# Altium footprint library TO-263-5_L10.2-W8.9-P1.70-BR.PcbLib: 1 footprints
Each footprint in its own frame and in the unit in brackets; x right, y up, seen from the top. Pads: shape width x height; smd on the part's side, far side on the other; paste and mask are expansions set on the pad; w line width, h text height; cw(c..) or ccw(c..) is an arc to the next point about the centre after c.
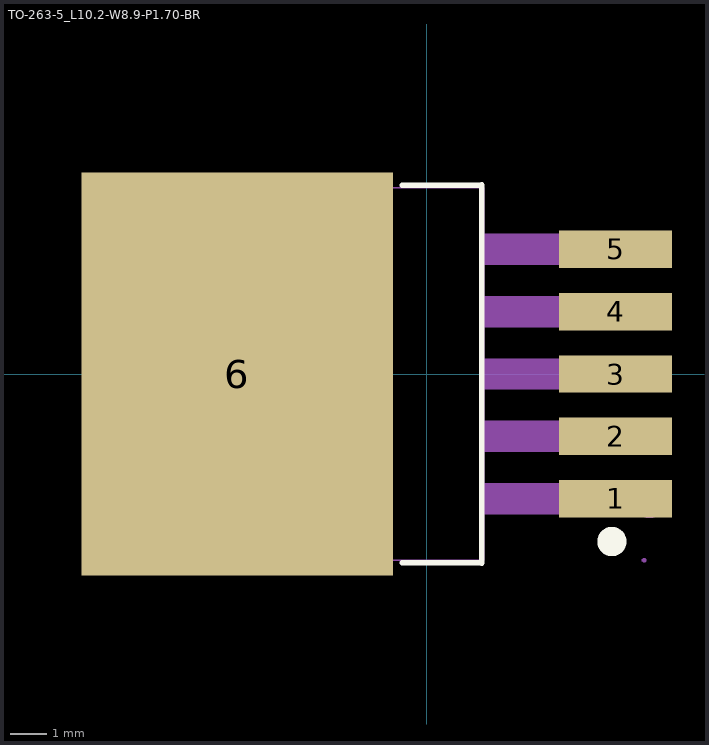
[diagram p0: the footprint, top view; thin cyan lines are the x and y axes]

## TO-263-5_L10.2-W8.9-P1.70-BR [mm]
pads (6):
  rect 3.083x1.02 smd: 1(5.16,-3.4) 2(5.16,-1.7) 3(5.16,0) 4(5.16,1.7) 5(5.16,3.4)
  rect 8.5x11 smd: 6(-5.16,0)
Top Overlay:
  circle w0.4: c5.057,-4.572 r0.2
  lines w0.15: -0.658,-5.156 1.156,-5.156 ; -0.658,5.156 1.131,5.156 ; 1.032,-5.156 1.501,-5.156 ; 1.032,5.156 1.501,5.156
  lines w0.152: 1.501,-5.156 1.501,5.156
Mechanical 6:
  circle w0.5: c6.073,-3.429 r0.25
Mechanical 15:
  region: 3.956,3.82 5.936,3.82 5.936,2.98 3.956,2.98
  region: 3.956,2.12 5.936,2.12 5.936,1.28 3.956,1.28
  region: 3.956,0.42 5.936,0.42 5.936,-0.42 3.956,-0.42
  region: 3.956,-1.28 5.936,-1.28 5.936,-2.12 3.956,-2.12
  region: 3.959,3.82 3.959,2.98 1.55,2.98 1.55,3.82
  region: 3.959,2.12 3.959,1.28 1.55,1.28 1.55,2.12
  region: 3.959,0.42 3.959,-0.42 1.55,-0.42 1.55,0.42
  region: 3.959,-1.28 3.959,-2.12 1.55,-2.12 1.55,-1.28
  region: 3.956,-2.98 5.936,-2.98 5.936,-3.82 3.956,-3.82
  region: -1.234,5.08 -1.234,-5.08 -7.398,-5.08 -8.414,-4.064 -8.414,4.064 -7.398,5.08
  region: 3.959,-2.98 3.959,-3.82 1.55,-3.82 1.55,-2.98
  region: 5.996,-5.08 5.996,-5.055 5.96,-5.02 5.911,-5.02 5.876,-5.055 5.876,-5.08 5.876,-5.105 5.911,-5.14 5.96,-5.14 5.996,-5.105 5.996,-5.08
  lines w0.051: -7.144,-5.08 -7.144,5.08 1.556,5.08 1.556,-5.08 -7.144,-5.08
3D body "3D_PCB4_2024-06-30.step": height 4.55, standoff 0.04, extent -8.133,-5.207 6.096,4.993